# EAGLE library part AD-ADUM3160BRWZ (library EagleLibrary)
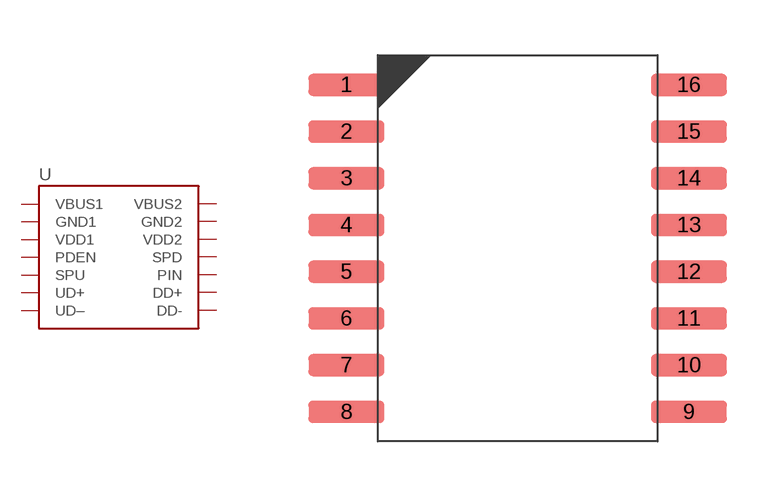
[diagram p33: symbol with the pads of AD-ADUM3160BRWZ; footprint AD-ADUM3160BRWZ]

Designator prefix U

## AD-ADUM3160BRWZ (MFG: Analog Devices)  [AD-ADUM3160BRWZ]
1  VBUS1
2  GND1
3  VDD1
4  PDEN
5  SPU
6  UD–
7  UD+
8  GND1
9  GND2
10  DD+
11  DD-
12  PIN
13  SPD
14  VDD2
15  GND2
16  VBUS2

## Footprint AD-ADUM3160BRWZ (pad centres in mm)
16-SOIC, 1.27 mm pitch, 10.32 mm span, 10.30 X 7.50 X 2.65 mm body 16-pin SOIC package with 1.27 mm pitch, 10.32 mm span with body size 10.30 X 7.50 X 2.65 mm
smd 2.052 x 0.599: 1 -4.654,4.445; 2 -4.654,3.175; 3 -4.654,1.905; 4 -4.654,0.635; 5 -4.654,-0.635; 6 -4.654,-1.905; 7 -4.654,-3.175; 8 -4.654,-4.445; 9 4.654,-4.445; 10 4.654,-3.175; 11 4.654,-1.905; 12 4.654,-0.635; 13 4.654,0.635; 14 4.654,1.905; 15 4.654,3.175; 16 4.654,4.445